# Altium footprint library EXB28V472JX.PcbLib: 3 footprints
Each footprint in its own frame and in the unit in brackets; x right, y up, seen from the top. Pads: shape width x height; smd on the part's side, far side on the other; paste and mask are expansions set on the pad; w line width, h text height; cw(c..) or ccw(c..) is an arc to the next point about the centre after c.
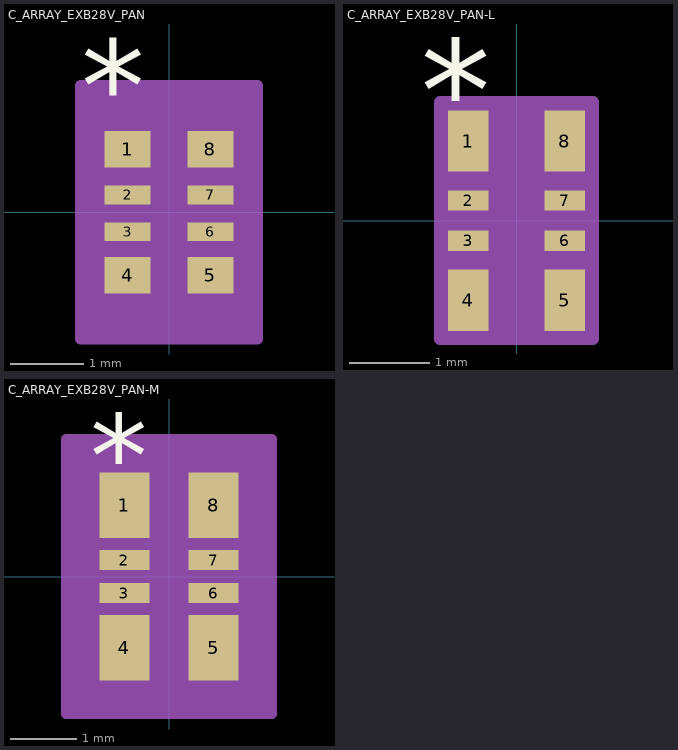
[diagram p0: the footprints below, top view; thin cyan lines are the x and y axes]

## C_ARRAY_EXB28V_PAN [mil]
pads (8):
  rect 24.84x19.68 smd paste+0 mask+0: 1(-22.26,33.83) 4(-22.26,-33.83) 5(22.26,-33.83) 8(22.26,33.83)
  rect 24.84x10 smd paste+0 mask+0: 2(-22.26,9.31) 3(-22.26,-10.38) 6(22.26,-10.38) 7(22.26,9.31)
Top Overlay:
  text "*" at -47,43 h50
Mechanical 13:
  lines w0: -19.5,-23.07 ccw(c-19.5,-20.23) -19.5,-17.38 ; -19.5,-3.38 ccw(c-19.5,-0.54) -19.5,2.31 ; -19.5,16.31 ccw(c-19.5,19.16) -19.5,22 ; 19.5,-23.07 cw(c19.5,-20.23) 19.5,-17.38 ; 19.5,-3.38 cw(c19.5,-0.54) 19.5,2.31 ; 19.5,16.31 cw(c19.5,19.16) 19.5,22
  lines w1: -19.5,-23.07 -19.5,-22 -19.5,-40 19.5,-40 19.5,-22 19.5,-23.07 ; -19.5,-17.38 -19.5,-3.38 ; -19.5,2.31 -19.5,16.31 ; -19.5,22 -19.5,40 19.5,40 19.5,22 ; -19.5,30 -9.5,40 ; 19.5,-17.38 19.5,-3.38 ; 19.5,2.31 19.5,16.31
  text "*" at -17,-5 h50
Mechanical 15:
  region: 19.5,-40 -19.5,-40 -19.5,40 19.5,40
  region: 47.5,-68 -47.5,-68 -47.5,68 47.5,68
  lines w6: -47.5,-68 -47.5,68 47.5,68 47.5,-68 -47.5,-68
3D body "C_ARRAY_EXB28V_PAN.step": height 17.72, standoff 0, extent -19.68,-39.37 19.68,39.37

## C_ARRAY_EXB28V_PAN-L [mil]
pads (8):
  rect 19.84x30 smd paste+0 mask+0: 1(-23.58,39) 4(-23.58,-39) 5(23.58,-39) 8(23.58,39)
  rect 19.84x10 smd paste+0 mask+0: 2(-23.58,9.85) 3(-23.58,-9.85) 6(23.58,-9.85) 7(23.58,9.85)
Top Overlay:
  text "*" at -47,39 h50
Mechanical 13:
  lines w0: -19.5,-22.54 ccw(c-19.5,-19.69) -19.5,-16.85 ; -19.5,-2.85 ccw(c-19.5,0) -19.5,2.85 ; -19.5,16.85 ccw(c-19.5,19.69) -19.5,22.54 ; 19.5,-22.54 cw(c19.5,-19.69) 19.5,-16.85 ; 19.5,-2.85 cw(c19.5,0) 19.5,2.85 ; 19.5,16.85 cw(c19.5,19.69) 19.5,22.54
  lines w1: -19.5,-22.54 -19.5,-22 -19.5,-40 19.5,-40 19.5,-22 19.5,-22.54 ; -19.5,-16.84 -19.5,-2.85 ; -19.5,2.85 -19.5,16.84 ; -19.5,22 -19.5,40 19.5,40 19.5,22 ; -19.5,30 -9.5,40 ; 19.5,-16.84 19.5,-2.85 ; 19.5,2.85 19.5,16.84
  text "*" at -17,-5 h50
Mechanical 15:
  region: 37.5,-58 -37.5,-58 -37.5,58 37.5,58
  region: 19.5,-40 -19.5,-40 -19.5,40 19.5,40
  lines w6: -37.5,-58 -37.5,58 37.5,58 37.5,-58 -37.5,-58
3D body "C_ARRAY_EXB28V_PAN.step": height 39.37, standoff -39.37, extent -19.68,0 19.68,17.72

## C_ARRAY_EXB28V_PAN-M [mil]
pads (8):
  rect 29.84x39 smd paste+0 mask+0: 1(-26.58,42.5) 4(-26.58,-42.5) 5(26.58,-42.5) 8(26.58,42.5)
  rect 29.84x12 smd paste+0 mask-1: 2(-26.58,9.85) 3(-26.58,-9.85) 6(26.58,-9.85) 7(26.58,9.85)
Top Overlay:
  text "*" at -47,47 h50
Mechanical 13:
  lines w0: -19.5,-22.54 ccw(c-19.5,-19.69) -19.5,-16.85 ; -19.5,-2.85 ccw(c-19.5,0) -19.5,2.85 ; -19.5,16.85 ccw(c-19.5,19.69) -19.5,22.54 ; 19.5,-22.54 cw(c19.5,-19.69) 19.5,-16.85 ; 19.5,-2.85 cw(c19.5,0) 19.5,2.85 ; 19.5,16.85 cw(c19.5,19.69) 19.5,22.54
  lines w1: -19.5,-22.54 -19.5,-22 -19.5,-40 19.5,-40 19.5,-22 19.5,-22.54 ; -19.5,-16.84 -19.5,-2.85 ; -19.5,2.85 -19.5,16.84 ; -19.5,22 -19.5,40 19.5,40 19.5,22 ; -19.5,30 -9.5,40 ; 19.5,-16.84 19.5,-2.85 ; 19.5,2.85 19.5,16.84
  text "*" at -17,-5 h50
Mechanical 15:
  region: 61.5,-82 -61.5,-82 -61.5,82 61.5,82
  region: 19.5,-40 -19.5,-40 -19.5,40 19.5,40
  lines w6: -61.5,-82 -61.5,82 61.5,82 61.5,-82 -61.5,-82
3D body "C_ARRAY_EXB28V_PAN.step": height 39.37, standoff -39.37, extent -19.68,0 19.68,17.72